# EAGLE library part CARDCON22 (library connect2)
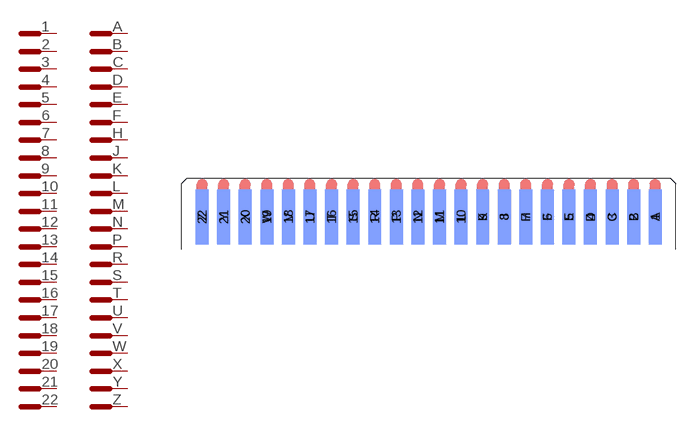
[diagram p0: symbol with the pads of CARDCON2; footprint CARDCON2]

Designator prefix X; gates 1=C64EXP 2=C64EXP 3=C64EXP 4=C64EXP 5=C64EXP 6=C64EXP 7=C64EXP 8=C64EXP 9=C64EXP 10=C64EXP 11=C64EXP 12=C64EXP 13=C64EXP 14=C64EXP 15=C64EXP 16=C64EXP 17=C64EXP 18=C64EXP 19=C64EXP 20=C64EXP 21=C64EXP 22=C64EXP A=C64EXP B=C64EXP C=C64EXP D=C64EXP E=C64EXP F=C64EXP H=C64EXP J=C64EXP K=C64EXP L=C64EXP M=C64EXP N=C64EXP P=C64EXP R=C64EXP S=C64EXP T=C64EXP U=C64EXP V=C64EXP W=C64EXP X=C64EXP Y=C64EXP Z=C64EXP

## CARDCON22  [CARDCON2]
1  1:-  pas
2  2:-  pas
3  3:-  pas
4  4:-  pas
5  5:-  pas
6  6:-  pas
7  7:-  pas
8  8:-  pas
9  9:-  pas
10  10:-  pas
11  11:-  pas
12  12:-  pas
13  13:-  pas
14  14:-  pas
15  15:-  pas
16  16:-  pas
17  17:-  pas
18  18:-  pas
19  19:-  pas
20  20:-  pas
21  21:-  pas
22  22:-  pas
A  A:-  pas
B  B:-  pas
C  C:-  pas
D  D:-  pas
E  E:-  pas
F  F:-  pas
H  H:-  pas
J  J:-  pas
K  K:-  pas
L  L:-  pas
M  M:-  pas
N  N:-  pas
P  P:-  pas
R  R:-  pas
S  S:-  pas
T  T:-  pas
U  U:-  pas
V  V:-  pas
W  W:-  pas
X  X:-  pas
Y  Y:-  pas
Z  Z:-  pas

## Footprint CARDCON2 (pad centres in mm)
smd 1.524 x 6.477: 1 55.88,3.81; 2 53.34,3.81; 3 50.8,3.81; 4 48.26,3.81; 5 45.72,3.81; 6 43.18,3.81; 7 40.64,3.81; 8 38.1,3.81; 9 35.56,3.81; 10 33.02,3.81; 11 30.48,3.81; 12 27.94,3.81; 13 25.4,3.81; 14 22.86,3.81; 15 20.32,3.81; 16 17.78,3.81; 17 15.24,3.81; 18 12.7,3.81; 19 10.16,3.81; 20 7.62,3.81; 21 5.08,3.81; 22 2.54,3.81
smd 1.524 x 6.477 bottom: A 55.88,3.81; B 53.34,3.81; C 50.8,3.81; D 48.26,3.81; E 45.72,3.81; F 43.18,3.81; H 40.64,3.81; J 38.1,3.81; K 35.56,3.81; L 33.02,3.81; M 30.48,3.81; N 27.94,3.81; P 25.4,3.81; R 22.86,3.81; S 20.32,3.81; T 17.78,3.81; U 15.24,3.81; V 12.7,3.81; W 10.16,3.81; X 7.62,3.81; Y 5.08,3.81; Z 2.54,3.81